# Altium footprint library PCB_Altium_Library_Manuel.PcbLib: 53 footprints (part 2 of 4)
Each footprint in its own frame and in the unit in brackets; x right, y up, seen from the top. Pads: shape width x height; smd on the part's side, far side on the other; paste and mask are expansions set on the pad; w line width, h text height; cw(c..) or ccw(c..) is an arc to the next point about the centre after c.
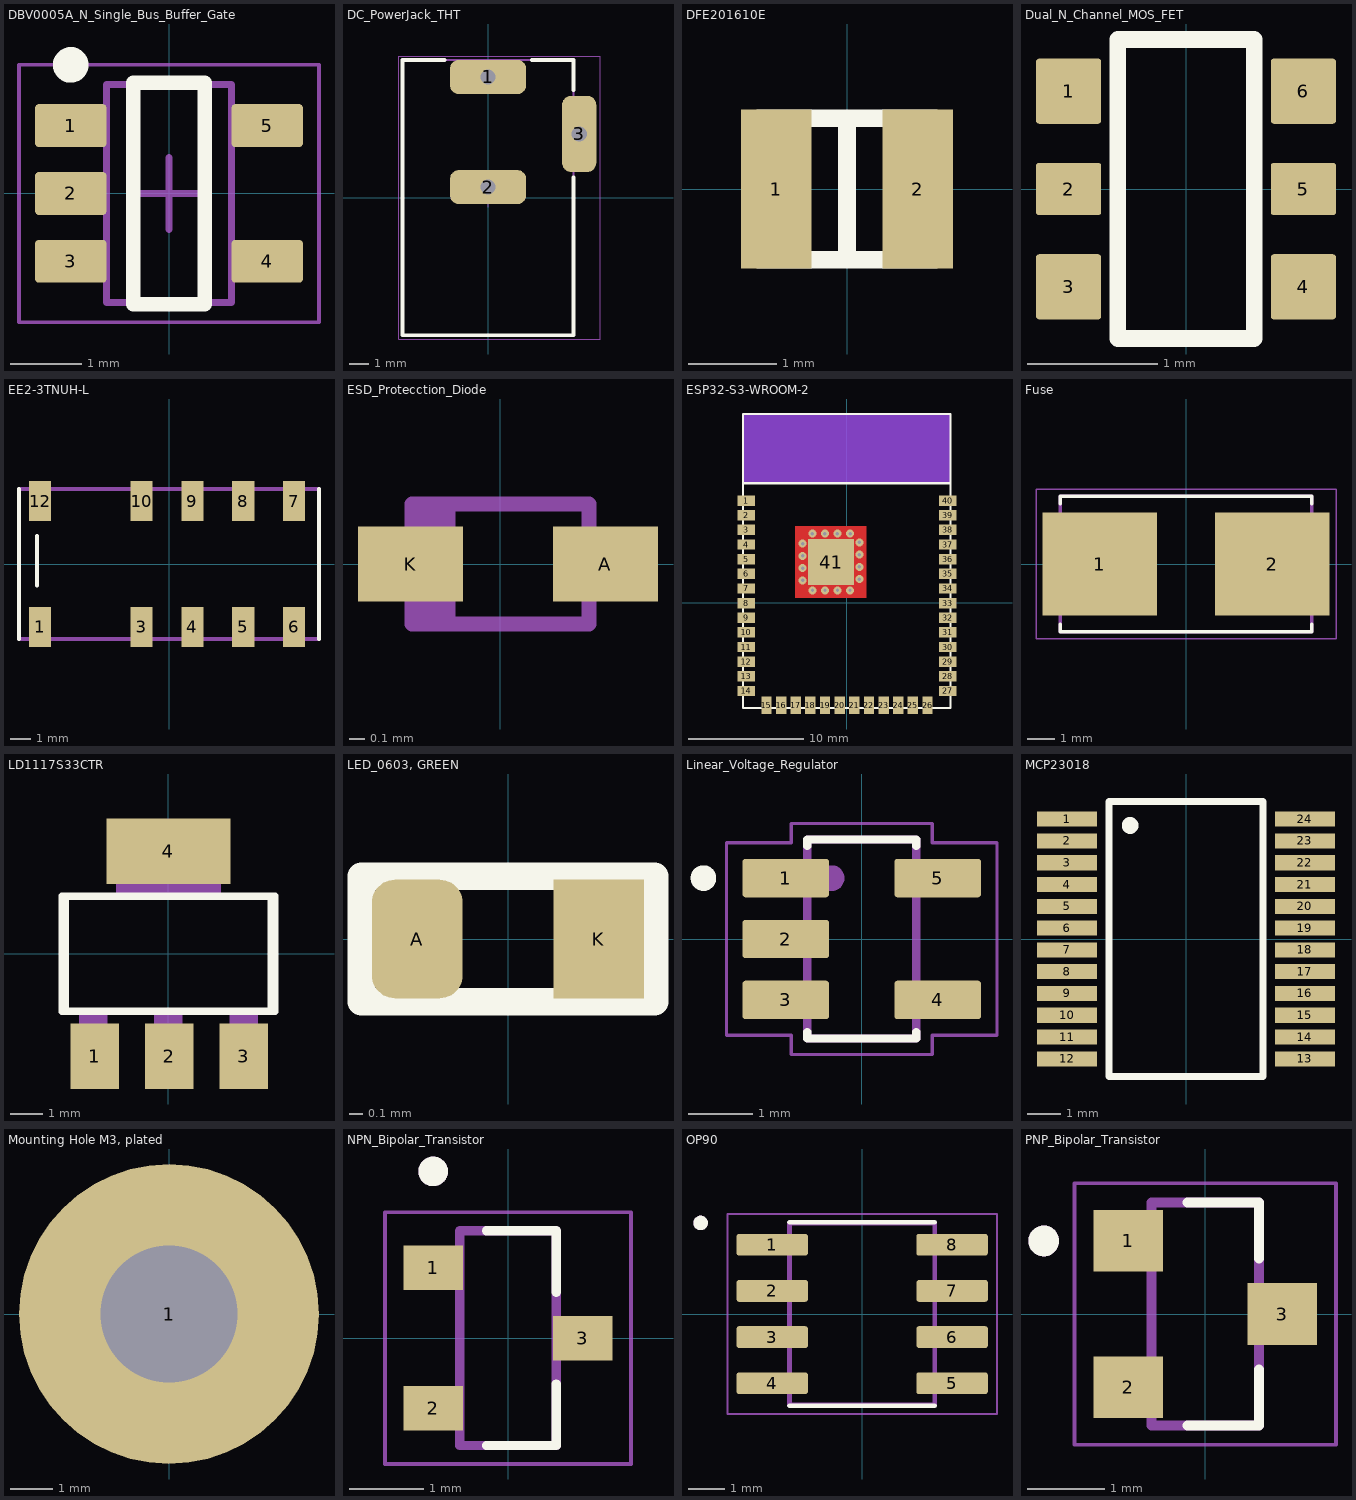
[diagram p1: the footprints below, top view; thin cyan lines are the x and y axes]

## DBV0005A_N_Single_Bus_Buffer_Gate [mm] "SOT23, 5-Leads, Body 3.05x1.75mm, Pitch 0.95mm, IPC Medium Density."
pads (5):
  rrect17% 1x0.6 smd: 1(-1.375,0.95) 2(-1.375,0) 3(-1.375,-0.95) 4(1.375,-0.95) 5(1.375,0.95)
Top Overlay:
  circle w0.25: c-1.375,1.8 r0.125
  lines w0.2: -0.5,-1.55 -0.5,1.55 0.5,1.55 0.5,-1.55 -0.5,-1.55
Mechanical 1:
  text ".Designator" at -0.635,-0.254 h0.4
Mechanical 13:
  lines w0.1: -0.875,-1.525 0.875,-1.525 0.875,1.525 -0.875,1.525 -0.875,-1.525
Mechanical 15:
  lines w0.05: -2.1,-1.8 2.1,-1.8 2.1,1.8 -2.1,1.8 -2.1,-1.8
  lines w0.1: -0.5,0 0.5,0 ; 0,-0.5 0,0.5
3D body "DBV0005AaksMF05A.stp": height 1.08, standoff -0.01, extent -1.422,-1.461 1.422,1.46

## DC_PowerJack_THT [mm] "694106301002, DCPowerJack_THT_R/A_Plastic_CenterPin_ Ã˜2.0."
pads (3):
  rrect50% 4x1.8 hole 0.8 square: 1(0,6.35) 2(0,0.55)
  rrect50% 1.8x4 hole 0.8 square: 3(4.8,3.35)
Top Overlay:
  lines w0.2: -2.3,7.25 -4.5,7.25 -4.5,-7.25 4.5,-7.25 4.5,1.05 ; 2.3,7.25 4.5,7.25 4.5,5.65
Top 3D Body:
  lines w0.1: -4.5,-7.25 4.5,-7.25 4.5,7.25 -4.5,7.25 -4.5,-7.25
Top Component Outline:
  lines w0.1: -4.5,-7.25 -4.5,7.25 4.5,7.25 4.5,-7.25 -4.5,-7.25
  text ".Designator" at -7.498,-0.5 h1.5
Top Designator:
  lines w0.05: -0.5,0 0.5,0 ; 0,-0.5 0,0.5 ; -4.7,-7.45 -4.7,7.45 5.9,7.45 5.9,-7.45 -4.7,-7.45
3D body "694106301002.stp": height 10.75, standoff -3.75, extent -4.5,-7.25 5,7.25

## DFE201610E [mm] "DFE201610E-1R0M=P2 Series Inductor 1.0uH +/-20% 0806"
pads (2):
  rect 0.8x1.8 smd: 1(-0.8,0) 2(0.8,0)
Top Overlay:
  lines w0.2: 0,-0.8 0,0.8 ; -1,-0.8 1,-0.8 1,0.8 -1,0.8 -1,-0.8
3D body "DFE201610E-1R0M=P2.stp": height 1, standoff 0, extent -1,-0.8 1,0.8

## Dual_N_Channel_MOS_FET [mm] "BSS138PS, Mosfet Array 60V 300mA (Ta) 350mW (Ta) Surface Mount SOT-23-6."
pads (6):
  rrect10% 0.5x0.5 smd: 1(-0.9,0.75) 3(-0.9,-0.75) 4(0.9,-0.75) 6(0.9,0.75)
  rrect10% 0.5x0.4 smd: 2(-0.9,0) 5(0.9,0)
Top Overlay:
  lines w0.127: -0.523,-1.146 -0.523,1.146 0.523,1.146 0.523,-1.146 -0.523,-1.146
3D body "BSS138PS.STEP": height 1.1, standoff 0, extent -1.05,-1 1.05,1

## EE2-3TNUH-L [mm] "Low Signal Latching Relay 3.0 V SMD, 2 Coils"
pads (10):
  rect 1.11x2 smd: 1(-6.45,-3.145) 3(-1.37,-3.145) 4(1.17,-3.145) 5(3.71,-3.145) 6(6.25,-3.145) 7(6.25,3.145) 8(3.71,3.145) 9(1.17,3.145) 10(-1.37,3.145) 12(-6.45,3.145)
Top Overlay:
  lines w0.2: -7.5,-3.75 -7.5,3.75 ; -6.611,-1.083 -6.604,1.397 ; 7.5,-3.75 7.5,3.75
Mechanical 13:
  lines w0.2: -7.5,-3.75 7.5,-3.75 7.5,3.75 -7.5,3.75 -7.5,-3.75
3D body "EE2-3TNUH-L--3DModel-STEP-56544.STEP": height 10, standoff 0, extent -7.5,-3.75 7.5,3.75

## ESD_Protecction_Diode [mm] "ESD5B5.0ST1G"
pads (2):
  rect 0.7x0.5 smd: A(0.7,0) K(-0.6,0)
Mechanical 13:
  region: -0.3,-0.4 -0.59,-0.4 -0.59,0.4 -0.3,0.4
  region: 0.75,-0.17 0.54,-0.17 0.54,0.17 0.75,0.17
  region: -0.54,-0.17 -0.75,-0.17 -0.75,0.17 -0.54,0.17
  lines w0.1: -0.59,-0.4 -0.59,0.4 0.59,0.4 0.59,-0.4 -0.59,-0.4
3D body "step_temp.STEP": height 0.7, standoff 0, extent -0.8,-0.4 0.8,0.4

## ESP32-S3-WROOM-2 [mm] "ESP32-S3-WROOM-2-N32R16V"
pads (41):
  rect 1.5x0.9 smd: 1(-8.75,8.88) 2(-8.75,7.61) 3(-8.75,6.34) 4(-8.75,5.07) 5(-8.75,3.8) 6(-8.75,2.53) 7(-8.75,1.26) 8(-8.75,-0.01) 9(-8.75,-1.28) 10(-8.75,-2.55) 11(-8.75,-3.82) 12(-8.75,-5.09) 13(-8.75,-6.36) 14(-8.75,-7.63) 27(8.75,-7.63) 28(8.75,-6.36) 29(8.75,-5.09) 30(8.75,-3.82) 31(8.75,-2.55) 32(8.75,-1.28) 33(8.75,-0.01) 34(8.75,1.26) 35(8.75,2.53) 36(8.75,3.8) 37(8.75,5.07) 38(8.75,6.34) 39(8.75,7.61) 40(8.75,8.88)
  rect 0.9x1.5 smd: 15(-6.985,-8.88) 16(-5.715,-8.88) 17(-4.445,-8.88) 18(-3.175,-8.88) 19(-1.905,-8.88) 20(-0.635,-8.88) 21(0.635,-8.88) 22(1.905,-8.88) 23(3.175,-8.88) 24(4.445,-8.88) 25(5.715,-8.88) 26(6.985,-8.88)
  rect 4x4 smd paste-2539.97: 41(-1.383,3.55)
via -0.839,6.015 diameter 0.7 hole 0.3
via 0.277,6.015 diameter 0.7 hole 0.3
via -1.923,6.015 diameter 0.7 hole 0.3
via -3.848,5.151 diameter 0.7 hole 0.3
via -3.848,4.089 diameter 0.7 hole 0.3
via -3.848,3.027 diameter 0.7 hole 0.3
via -3.848,1.965 diameter 0.7 hole 0.3
via -2.991,1.09 diameter 0.7 hole 0.3
via -1.907,1.09 diameter 0.7 hole 0.3
via -0.823,1.09 diameter 0.7 hole 0.3
via 0.261,1.09 diameter 0.7 hole 0.3
via 1.077,2.066 diameter 0.7 hole 0.3
via 1.077,3.128 diameter 0.7 hole 0.3
via 1.077,4.19 diameter 0.7 hole 0.3
via 1.077,5.252 diameter 0.7 hole 0.3
via -3.007,6.015 diameter 0.7 hole 0.3
Top Layer:
  region: -4.477,6.639 1.68,6.639 1.68,0.46 -4.477,0.46
Top Layer keep-out:
  rectangle: -9.023,10.39 8.977,16.39
Bottom Layer keep-out:
  rectangle: -9.023,10.39 8.977,16.39
Top Overlay:
  lines w0.2: 8.977,10.39 -9.023,10.39 ; -9.023,10.39 -9.023,-9.11 8.977,-9.11 8.977,16.39 -9.023,16.39 -9.023,10.39
Top Paste:
  rectangle: -3.257,4.44 -2.257,5.44
  rectangle: -1.87,4.44 -0.87,5.44
  rectangle: -0.498,4.44 0.502,5.44
  rectangle: -1.885,3.09 -0.885,4.09
  rectangle: -3.273,3.09 -2.273,4.09
  rectangle: -3.273,1.665 -2.273,2.665
  rectangle: -1.886,1.665 -0.885,2.665
  rectangle: -0.498,1.665 0.502,2.665
  rectangle: -0.498,3.09 0.502,4.09
3D body "ESP32-S3-WROOM-2-N32R16V.stp": height 3.25, standoff 0, extent -9,-9.13 9,16.37

## Fuse [mil] "0154010.DR, FUSE BRD MNT 10A 125VAC/VDC SMD"
pads (2):
  rect 167x150 smd: 1(-125.5,0) 2(125.5,0)
Top Overlay:
  lines w5: -183.66,-87.99 -183.66,-99.02 183.66,-99.02 183.66,-87.99 ; -183.66,87.99 -183.66,99.02 183.66,99.02 183.66,87.99
Mechanical 13:
  lines w5: -183.66,-99.02 -183.66,99.02 183.66,99.02 183.66,-99.02 -183.66,-99.02
Mechanical 15:
  lines w1.97: -218.84,-108.86 218.84,-108.86 218.84,108.86 -218.84,108.86 -218.84,-108.86
3D body "step_temp.STEP": height 150, standoff 0, extent -191.54,-99.02 191.54,99.02

## LD1117S33CTR [mil] "LDO, 3.3V and 800mA."
pads (4):
  rect 59x79 smd: 1(-89,-124) 2(1,-124) 3(91,-124)
  rect 150x79 smd: 4(0,124)
Top Overlay:
  lines w6: -122.99,-68.07 122.99,-68.07 122.99,68.15 -122.99,68.15 -122.99,-68.07
  lines w8: -129,-70 -129,70 129,70 129,-70 -129,-70
Mechanical 13:
  region: 108,-144 74,-144 74,-71 108,-71
  region: -74,-144 -108,-144 -108,-71 -74,-71
  region: 17,-144 -17,-144 -17,-71 17,-71
  region: 63,71 -63,71 -63,144 63,144
  region: 108,-144 74,-144 74,-71 108,-71
  region: -74,-144 -108,-144 -108,-71 -74,-71
  region: 17,-144 -17,-144 -17,-71 17,-71
  region: 63,71 -63,71 -63,144 63,144
  region: 15,-130 -15,-130 -15,-70 15,-70
  region: 105,-130 75,-130 75,-70 105,-70
  region: -75,-130 -105,-130 -105,-70 -75,-70
  region: 60,70 -60,70 -60,130 60,130
3D body "step_temp.STEP": height 70.87, standoff 0, extent -127.95,-137.75 127.95,137.75

## LED_0603, GREEN [mm] "LED 0603, Green, 3.2 V, 20 mA, 430 mcd"
pads (2):
  rrect50% 0.65x0.85 smd: A(-0.65,0)
  rect 0.65x0.85 smd: K(0.65,0)
Top Overlay:
  region: 0.7,0.45 0.4,0.45 0.7,0.15
  region: 0.7,-0.45 0.7,-0.15 0.4,-0.45
  lines w0.2: -1.05,-0.45 1.05,-0.45 1.05,0.45 -1.05,0.45 -1.05,-0.45
3D body: height 1.1, standoff 0, extent -0.85,-0.45 0.85,0.45

## Linear_Voltage_Regulator [mm] "AP2112K-3.3TRG1, Linear Voltage Regulator IC Positive Fixed 1 Output 600mA SOT-25."
pads (5):
  rrect15% 1.35x0.6 smd: 1(-1.185,0.95) 2(-1.185,0) 3(-1.185,-0.95) 4(1.185,-0.95) 5(1.185,0.95)
Top Overlay:
  circle w0.2: c-2.469,0.95 r0.1
  lines w0.127: -0.85,-1.45 -0.85,-1.55 0.85,-1.55 0.85,-1.45 ; -0.85,1.45 -0.85,1.55 0.85,1.55 0.85,1.45
Mechanical 13:
  circle w0.2: c-0.469,0.95 r0.1
  lines w0.127: -0.85,-1.55 0.85,-1.55 0.85,1.55 -0.85,1.55 -0.85,-1.55
Mechanical 15:
  lines w0.05: -2.11,-1.5 -2.11,1.5 -1.1,1.5 -1.1,1.8 1.1,1.8 1.1,1.5 2.11,1.5 2.11,-1.5 1.1,-1.5 1.1,-1.8 -1.1,-1.8 -1.1,-1.5 -2.11,-1.5
3D body "step_temp.STEP": height 1.4, standoff 0, extent -1.4,-1.5 1.4,1.5

## MCP23018 [mm] "16-bit I/O Expander I2C,  SSOP-24"
pads (24):
  rect 1.8x0.45 smd: 1(-3.55,3.575) 2(-3.55,2.925) 3(-3.55,2.275) 4(-3.55,1.625) 5(-3.55,0.975) 6(-3.55,0.325) 7(-3.55,-0.325) 8(-3.55,-0.975) 9(-3.55,-1.625) 10(-3.55,-2.275) 11(-3.55,-2.925) 12(-3.55,-3.575) 13(3.55,-3.575) 14(3.55,-2.925) 15(3.55,-2.275) 16(3.55,-1.625) 17(3.55,-0.975) 18(3.55,-0.325) 19(3.55,0.325) 20(3.55,0.975) 21(3.55,1.625) 22(3.55,2.275) 23(3.55,2.925) 24(3.55,3.575)
Top Overlay:
  circle w0.3: c-1.666,3.387 r0.1
  lines w0.2: -2.3,-4.1 -2.3,4.1 2.3,4.1 2.3,-4.1 -2.3,-4.1
3D body "MCP23018-E_SS.stp": height 2, standoff 0, extent -3.9,-4.1 3.9,4.1

## Mounting Hole M3, plated [mm] "Mounting Hole for M3 Screw, plated to connect signal"
pads (1):
  round 7 / inner round 5 / far side round 7 hole 3.2: 1(0,0)
Top Overlay:
  circle w0.2: c0,0 r2.9
3D body: height 0, standoff 0, extent -2.254,1.203 -1.258,2.201

## NPN_Bipolar_Transistor [mm] "SS8050 SOT - 23."
pads (3):
  rect 0.8x0.6 smd: 1(-1.01,0.95) 2(-1.01,-0.95) 3(1.01,0)
Top Overlay:
  circle w0.2: c-1.01,2.25 r0.1
  lines w0.127: -0.29,-1.45 0.65,-1.45 0.65,-0.62 ; -0.29,1.45 0.65,1.45 0.65,0.62
Mechanical 13:
  circle w0.2: c-1.01,2.25 r0.1
  lines w0.127: -0.65,-1.45 -0.65,1.45 0.65,1.45 0.65,-1.45 -0.65,-1.45
Mechanical 15:
  lines w0.05: -1.66,-1.7 1.66,-1.7 1.66,1.7 -1.66,1.7 -1.66,-1.7
3D body "SS8050-G--3DModel-STEP-1.STEP": height 1.14, standoff 0, extent -1.2,-1.448 1.2,1.448

## OP90 [mm] "Operation amplifier OP90 SMD"
pads (8):
  rrect25% 1.97x0.6 smd: 1(-2.475,1.905) 2(-2.475,0.635) 3(-2.475,-0.635) 4(-2.475,-1.905) 5(2.475,-1.905) 6(2.475,-0.635) 7(2.475,0.635) 8(2.475,1.905)
Top Overlay:
  circle w0.2: c-4.445,2.505 r0.1
  lines w0.127: -2,-2.525 2,-2.525 ; -2,2.525 2,2.525
Mechanical 13:
  circle w0.2: c-4.445,2.505 r0.1
  lines w0.127: -2,-2.5 -2,2.5 2,2.5 2,-2.5 -2,-2.5
Mechanical 15:
  lines w0.05: -3.71,-2.75 -3.71,2.75 3.71,2.75 3.71,-2.75 -3.71,-2.75
3D body "step_temp.STEP": height 1.75, standoff 0, extent -3,-2.45 3,2.45

## PNP_Bipolar_Transistor [mm] "S8550, Bipolar (BJT) Transistor PNP 25 V 500 mA 150MHz 300 mW Surface Mount SOT-23."
pads (3):
  rect 0.9x0.8 smd: 1(-1,0.95) 2(-1,-0.95) 3(1,0)
Top Overlay:
  circle w0.2: c-2.1,0.95 r0.1
  lines w0.127: -0.23,-1.45 0.7,-1.45 0.7,-0.72 ; -0.23,1.45 0.7,1.45 0.7,0.72
Mechanical 13:
  circle w0.2: c-2.1,0.95 r0.1
  lines w0.127: -0.7,-1.45 0.7,-1.45 0.7,1.45 -0.7,1.45 -0.7,-1.45
Mechanical 15:
  lines w0.05: -1.7,-1.7 1.7,-1.7 1.7,1.7 -1.7,1.7 -1.7,-1.7
3D body "step_temp.STEP": height 1.4, standoff 0, extent -1.262,-1.45 1.262,1.45